# Altium footprint library Capacitor.PcbLib: 27 footprints (part 2 of 2)
Each footprint in its own frame and in the unit in brackets; x right, y up, seen from the top. Pads: shape width x height; smd on the part's side, far side on the other; paste and mask are expansions set on the pad; w line width, h text height; cw(c..) or ccw(c..) is an arc to the next point about the centre after c.
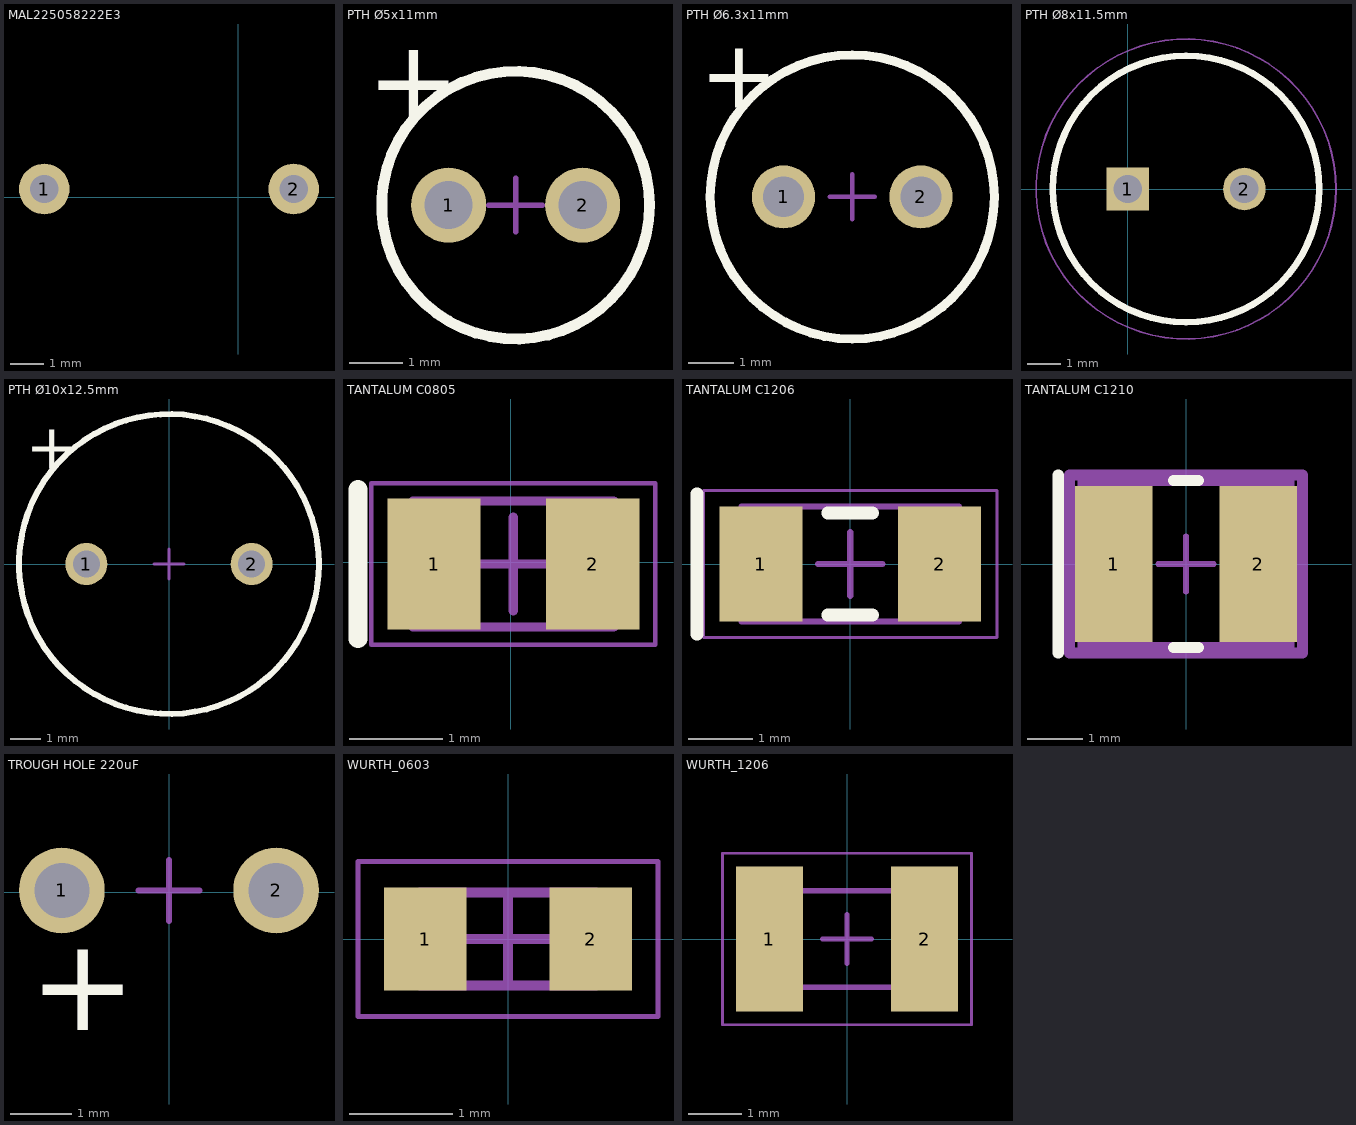
[diagram p1: the footprints below, top view; thin cyan lines are the x and y axes]

## MAL225058222E3 [mil]
pads (2):
  round 60 hole 33.46: 1(-230,10) 2(66.14,10)
3D body "MAL225058222E3.stp": height 442.91, standoff -2017.72, extent -445.67,-354.17 282.68,374.17

## PTH Ø5x11mm [mm]
pads (2):
  round 1.4 hole 0.9: 1(-226.167,239.522) 2(-223.664,239.522)
Top Overlay:
  circle w0.2: c-224.917,239.522 r2.5
  circle w0.1: c-224.917,239.522 r2.5
  text "+" at -227.7,241.1 h1.52
Mechanical 15:
  circle w0.05: c-224.917,239.522 r2.5
  lines w0.1: -225.417,239.522 -224.417,239.522 ; -224.917,239.022 -224.917,240.022
3D body "EEUEB1J100S.STEP": height 11, standoff -17, extent -227.413,237.033 -222.413,242.028

## PTH Ø6.3x11mm [mm]
pads (2):
  round 1.4 hole 0.9: 1(-226.441,239.522) 2(-223.393,239.522)
Top Overlay:
  circle w0.2: c-224.917,239.522 r3.15
  circle w0.1: c-224.917,239.522 r3.15
  text "+" at -228.3,241.5 h1.52
Mechanical 15:
  circle w0.05: c-224.917,239.522 r3.15
  lines w0.1: -225.417,239.522 -224.417,239.522 ; -224.917,239.022 -224.917,240.022
3D body "UPV1H390MGD.STEP": height 12.5, standoff -19, extent -228.067,236.347 -221.767,242.642

## PTH Ø8x11.5mm [mm]
pads (2):
  rect 1.275x1.275 hole 0.85: 1(0,0)
  round 1.275 hole 0.85: 2(3.5,0)
Top Overlay:
  circle w0.2: c1.75,0 r4
Mechanical 13:
  circle w0.1: c1.75,0 r4
Mechanical 15:
  circle w0.05: c1.75,0 r4.5
3D body "ECA-1CM471.stp": height 12.5, standoff -10, extent -2.5,-4.25 6,4.25

## PTH Ø10x12.5mm [mm]
pads (2):
  round 1.4 hole 0.9: 1(-2.755,0) 2(2.755,0)
Top Overlay:
  circle w0.1: c0,0 r5
  circle w0.2: c0,0 r5
  text "+" at -4.783,3.178 h1.52
Mechanical 15:
  circle w0.05: c0,0 r5
  lines w0.1: -0.5,0 0.5,0 ; 0,-0.5 0,0.5
3D body "ECA2GM100.STEP": height 20, standoff -17, extent -4.983,-5.022 5.017,4.978

## TANTALUM C0805 [mm]
pads (2):
  rect 1x1.4 smd: 1(-0.824,-0.02) 2(0.876,-0.02)
Top Overlay:
  lines w0.2: -1.639,-0.821 -1.639,0.779
Mechanical 13:
  lines w0.1: -1.049,-0.695 -1.049,0.655 1.101,0.655 1.101,-0.695 -1.049,-0.695
Mechanical 15:
  lines w0.05: -1.498,-0.884 -1.498,0.844 1.548,0.844 1.548,0.455 1.548,-0.495 1.548,-0.884 0.787,-0.884 -0.736,-0.884 -1.498,-0.884
  lines w0.1: -0.474,-0.02 0.526,-0.02 ; 0.026,-0.52 0.026,0.48
3D body "F980J107MSA.STEP": height 1.2, standoff 0, extent -0.964,-0.671 1.086,0.629

## TANTALUM C1206 [mm]
height 2
pads (2):
  rect 1.3x1.8 smd: 1(-1.4,0) 2(1.4,0)
Top Overlay:
  lines w0.2: -2.4,-1.1 -2.4,1.1 ; -0.35,-0.8 0.35,-0.8 ; -0.35,0.8 0.35,0.8
Mechanical 13:
  lines w0.1: -1.7,-0.9 1.7,-0.9 1.7,0.9 -1.7,0.9 -1.7,-0.9
Mechanical 15:
  lines w0.05: -2.3,-1.15 2.3,-1.15 2.3,1.15 -2.3,1.15 -2.3,-1.15
  lines w0.1: -0.5,0 0.5,0 ; 0,-0.5 0,0.5
3D body "t491a106m020at.stp": height 1.81, standoff 0.01, extent -1.7,-0.9 1.7,0.9

## TANTALUM C1210 [mm]
pads (2):
  rect 1.4x2.8 smd paste+0 mask+0: 1(-1.3,0) 2(1.3,0)
Top Overlay:
  lines w0.2: -2.3,-1.6 -2.3,1.6 ; -0.225,-1.5 0.225,-1.5 ; -0.225,1.5 0.225,1.5
Mechanical 10:
  lines w0.2: -2.1,-1.6 -2.1,1.6 2.1,1.6 2.1,-1.6 -2.1,-1.6
  text ".Designator" at 0,-0.112 h1
Mechanical 12:
  lines w0.2: -1.85,-1.5 -1.85,1.5 1.85,1.5 1.85,-1.5 -1.85,-1.5
Mechanical 15:
  lines w0.1: -0.5,0 0.5,0 ; 0,-0.5 0,0.5
  lines w0.2: -2.1,-1.6 -2.1,1.6 2.1,1.6 2.1,-1.6 -2.1,-1.6
3D body "Cap_AVX_Corporation_TLJB157M010R0500_eec.STEP": height 0.25, standoff 0, extent -2.1,-1.6 2.1,1.6

## TROUGH HOLE 220uF [mm]
pads (2):
  round 1.4 hole 0.9: 1(-1.753,0.026) 2(1.747,0.026)
Top Overlay:
  text "+" at -2.289,-2.26 h1.52
Mechanical 15:
  lines w0.1: -0.503,0.026 0.497,0.026 ; -0.003,-0.474 -0.003,0.526

## WURTH_0603 [mm] "Wurth 0603 in (1608 metric) package"
height 0.55
pads (2):
  rect 0.8x1 smd: 1(-0.8,0) 2(0.8,0)
Mechanical 13:
  lines w0.1: -0.85,-0.45 0.85,-0.45 0.85,0.45 -0.85,0.45 -0.85,-0.45
Mechanical 15:
  lines w0.05: -1.45,-0.75 1.45,-0.75 1.45,0.75 -1.45,0.75 -1.45,-0.75
  lines w0.1: -0.45,0 0.45,0 ; 0,-0.45 0,0.45
3D body "CAP_WURTH_0603.stp": height 0.87, standoff 0, extent -0.8,-0.4 0.8,0.4

## WURTH_1206 [mm] "Wurth 1206 in (3225 metric) package"
height 0.55
pads (2):
  rect 1.25x2.7 smd: 1(-1.45,0) 2(1.45,0)
Mechanical 13:
  lines w0.1: -1.625,-0.9 -1.625,0.9 1.575,0.9 1.575,-0.9 -1.625,-0.9
Mechanical 15:
  lines w0.05: -2.325,-1.6 -2.325,1.6 2.325,1.6 2.325,-1.6 -2.325,-1.6
  lines w0.1: -0.45,0 0.45,0 ; 0,-0.45 0,0.45
3D body "CAP_1206.STEP": height 1.6, standoff 0, extent -1.6,-0.9 1.6,0.9